# Altium footprint library TCRT5000_SMT.PcbLib: 1 footprints
Each footprint in its own frame and in the unit in brackets; x right, y up, seen from the top. Pads: shape width x height; smd on the part's side, far side on the other; paste and mask are expansions set on the pad; w line width, h text height; cw(c..) or ccw(c..) is an arc to the next point about the centre after c.
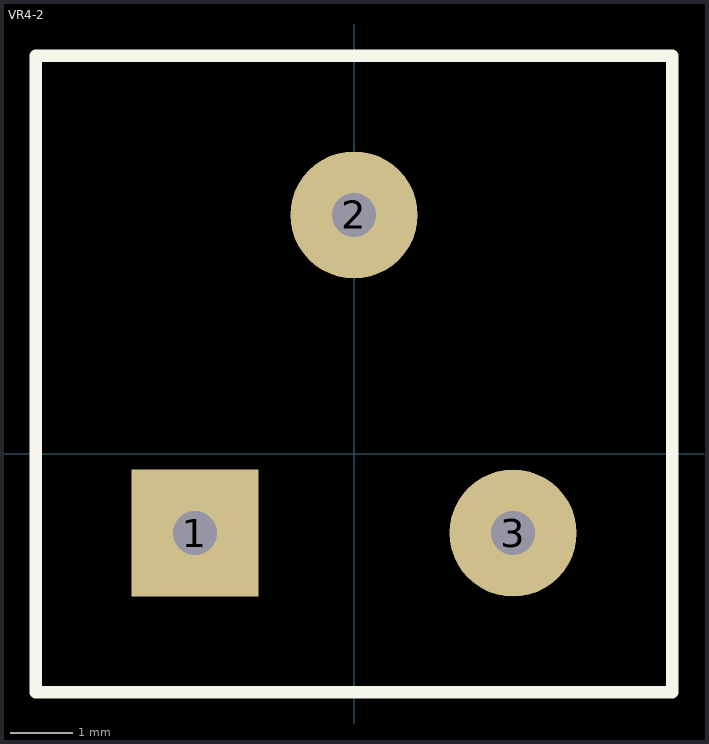
[diagram p0: the footprint, top view; thin cyan lines are the x and y axes]

## VR4-2 [mil] "Variable Resistor, Thru-Hole; 3 Leads"
pads (3):
  rect 80x80 hole 27.56: 1(-100,-50)
  round 80 hole 27.56: 2(0,150) 3(100,-50)
Top Overlay:
  lines w7.87: -200,-150 -200,250 50,250 200,250 200,-150 -200,-150